# Altium footprint library PCB1.PcbLib: 17 footprints (part 2 of 2)
Each footprint in its own frame and in the unit in brackets; x right, y up, seen from the top. Pads: shape width x height; smd on the part's side, far side on the other; paste and mask are expansions set on the pad; w line width, h text height; cw(c..) or ccw(c..) is an arc to the next point about the centre after c.
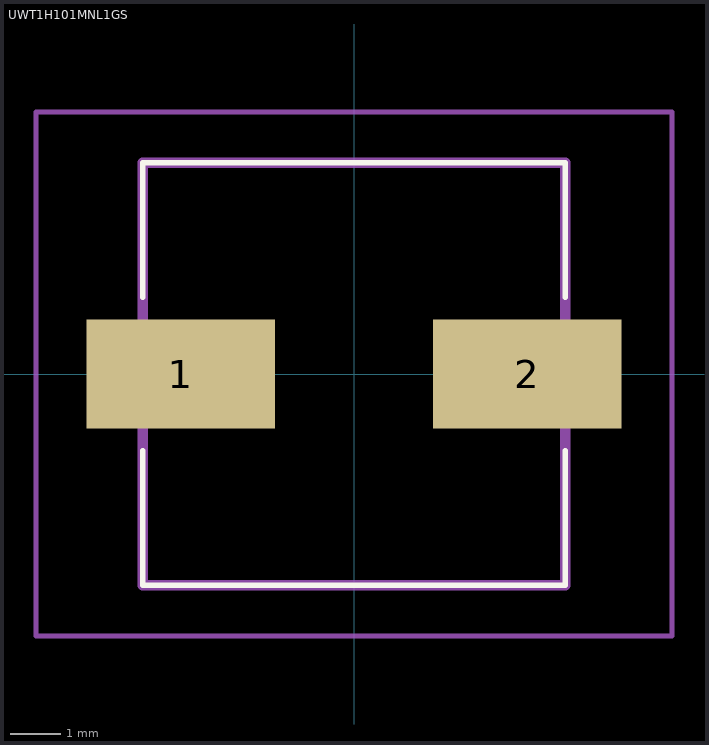
[diagram p1: the footprint, top view; thin cyan lines are the x and y axes]

## UWT1H101MNL1GS [mm]
pads (2):
  rect 3.7x2.15 smd: 1(-3.4,0) 2(3.4,0)
Top Overlay:
  lines w0.1: -4.15,-1.5 -4.15,-4.15 4.15,-4.15 4.15,-1.5 ; -4.15,1.5 -4.15,4.15 4.15,4.15 4.15,1.5
Mechanical 13:
  lines w0.2: -4.15,-4.15 4.15,-4.15 4.15,4.15 -4.15,4.15 -4.15,-4.15
Mechanical 15:
  lines w0.1: -6.25,-5.15 6.25,-5.15 6.25,5.15 -6.25,5.15 -6.25,-5.15
3D body "UWT1H101MNL1GS.stp": height 10.1, standoff 0, extent -5.035,-4.15 5.035,4.15